# Altium integrated library MBRS260T3G.IntLib: 1 symbol
Pins are listed as number, name and electrical type; pins without a type are passive.

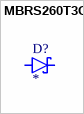
[diagram p0: symbol MBRS260T3G]

## MBRS260T3G
designator D?
Diode Schottky 60V 2A Surface Mount SMB; MF: ON Semiconductor; MP: MBRS260T3G; SnapEDA_Link: https://www.snapeda.com/parts/MBRS260T3G/ON%20Semiconductor/view-part/356560/?ref=snap; Check_prices: https://www.snapeda.com/parts/MBRS260T3G/ON%20Semiconductor/view-part/356560/?ref=eda; Package: SMB-2 ON Semiconductor; Purchase-URL: https://pricing.snapeda.com/search/part/MBRS260T3G/?ref=eda; Value: *; Digi-Key_Part_Number: MBRS260T3GOSCT-ND
footprint SMB
pins: A, C